# EAGLE library part ICL7673CPAZ (library Intersil_By_element14_Batch_1)
Automatic Battery Back-Up Switch
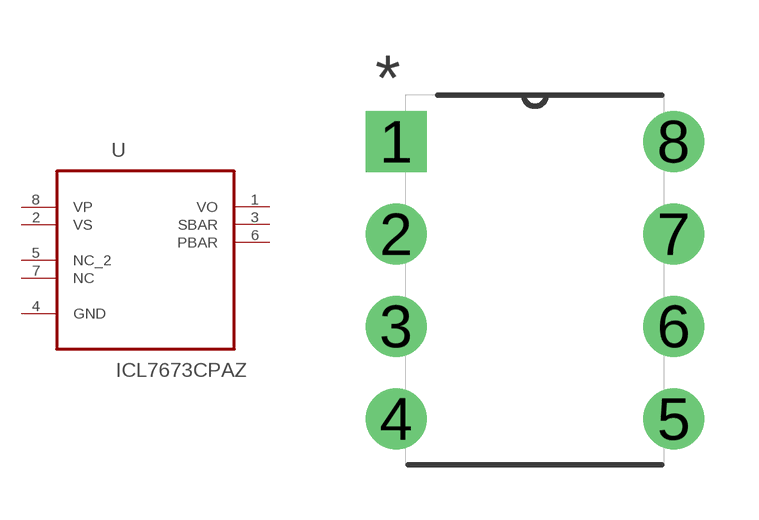
[diagram p201: symbol with the pads of DIP254P762X533-8; footprint DIP254P762X533-8]

Designator prefix U

## ICL7673CPAZ (MPN: ICL7673CPAZ; OC_FARNELL: 1018172; OC_NEWARK: 57K3898; PACKAGE: PDIP-8; SUPPLIER: INTERSIL)  [DIP254P762X533-8]
1  VO  out
2  VS  in
3  SBAR  pas
4  GND  pas
5  NC_2  nc
6  PBAR  pas
7  NC  nc
8  VP  in

## Footprint DIP254P762X533-8 (pad centres in mm)
drill 1.118 square: 1 -7.62,7.62
drill 1.118: 2 -7.62,5.08; 3 -7.62,2.54; 4 -7.62,0; 5 0,0; 6 0,2.54; 7 0,5.08; 8 0,7.62